# Altium schematic symbol library STlinkv21.SchLib: 3 symbols
Pins are listed as number, name and electrical type; pins without a type are passive.

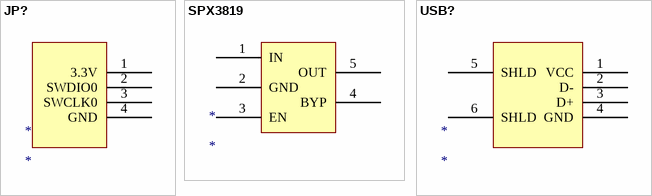
[diagram p0: symbols JP? to USB?]

## JP?
designator *
footprint JP4
pins: 1 3.3V, 2 SWDIO0, 3 SWCLK0, 4 GND

## SPX3819
designator *
footprint SOT-23-5
pins: 1 IN, 2 GND, 3 EN, 4 BYP, 5 OUT

## USB?
designator *
footprint USB-AM-1*4p
pins: 1 VCC, 2 D-, 3 D+, 4 GND, 5 SHLD, 6 SHLD